# Altium schematic symbol library W5500_SCH.SchLib: 1 symbol
Pins are listed as number, name and electrical type; pins without a type are passive.

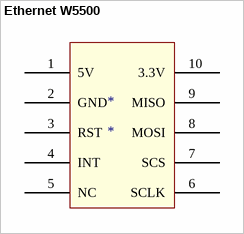
[diagram p0: symbol Ethernet W5500]

## Ethernet W5500
designator *
footprint ethernet w5500
pins: 1 5V, 2 GND, 3 RST, 4 INT, 5 NC, 6 SCLK, 7 SCS, 8 MOSI, 9 MISO, 10 3.3V